# Altium footprint library Connector_Dsub.PcbLib: 104 footprints (part 2 of 7)
Each footprint in its own frame and in the unit in brackets; x right, y up, seen from the top. Pads: shape width x height; smd on the part's side, far side on the other; paste and mask are expansions set on the pad; w line width, h text height; cw(c..) or ccw(c..) is an arc to the next point about the centre after c.
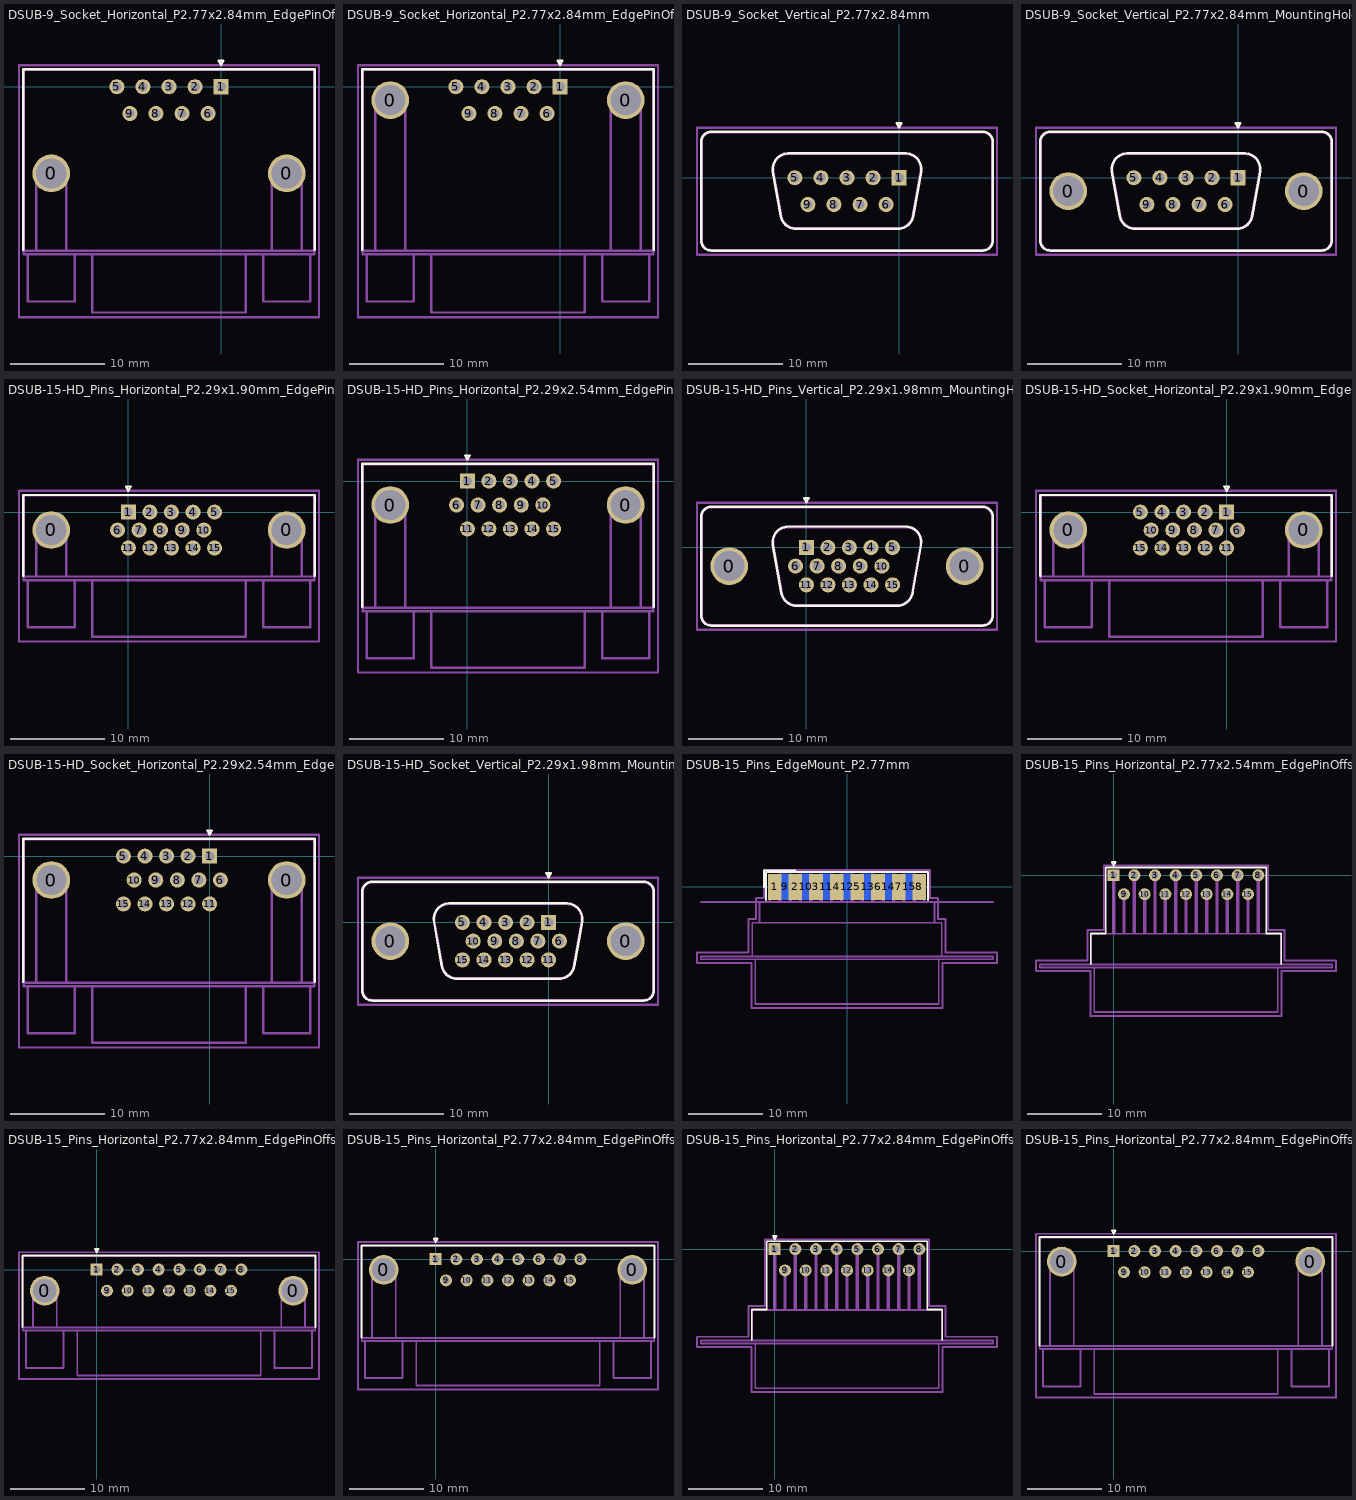
[diagram p1: the footprints below, top view; thin cyan lines are the x and y axes]

## DSUB-9_Socket_Horizontal_P2.77x2.84mm_EdgePinOffset14.56mm_Housed_MountingHolesOffset8.20mm [mm]
pads (11):
  round 4 hole 3.2: 0(-18.04,-9.2) 0(6.96,-9.2)
  rect 1.6x1.6 hole 1: 1(0,0)
  round 1.6 hole 1: 2(-2.77,0) 3(-5.54,0) 4(-8.31,0) 5(-11.08,0) 6(-1.385,-2.84) 7(-4.155,-2.84) 8(-6.925,-2.84) 9(-9.695,-2.84)
F.SilkS:
  lines w0.254: -21.025,-17.34 -21.025,1.86 9.945,1.86 9.945,-17.34 ; -0.25,2.754 0.25,2.754 0,2.321 -0.25,2.754
F.Fab:
  lines w0.254: -19.64,-17.4 -19.64,-9.2 cw(c-18.04,-9.2) -16.44,-9.2 -16.44,-17.4 ; 5.36,-17.4 5.36,-9.2 cw(c6.96,-9.2) 8.56,-9.2 8.56,-17.4 ; -20.965,-17.4 -20.965,1.8 9.885,1.8 9.885,-17.4 ; -20.965,-17.4 -20.965,-17.8 9.885,-17.8 9.885,-17.4 ; -20.965,-17.4 9.885,-17.4 ; -20.965,-17.4 9.885,-17.4 ; -20.54,-22.8 -20.54,-17.8 -15.54,-17.8 -15.54,-22.8 -20.54,-22.8 ; -13.69,-23.97 -13.69,-17.8 2.61,-17.8 2.61,-23.97 -13.69,-23.97 ; 4.46,-22.8 4.46,-17.8 9.46,-17.8 9.46,-22.8 4.46,-22.8
  text "'.Designator'" at -9.587,-21.725 h1
F.CrtYd:
  lines w0.254: -21.47,-24.47 -21.47,2.3 10.39,2.3 10.39,-24.47 -21.47,-24.47

## DSUB-9_Socket_Horizontal_P2.77x2.84mm_EdgePinOffset14.56mm_Housed_MountingHolesOffset15.98mm [mm]
pads (11):
  round 4 hole 3.2: 0(-18.04,-1.42) 0(6.96,-1.42)
  rect 1.6x1.6 hole 1: 1(0,0)
  round 1.6 hole 1: 2(-2.77,0) 3(-5.54,0) 4(-8.31,0) 5(-11.08,0) 6(-1.385,-2.84) 7(-4.155,-2.84) 8(-6.925,-2.84) 9(-9.695,-2.84)
F.SilkS:
  lines w0.254: -21.025,-17.34 -21.025,1.86 9.945,1.86 9.945,-17.34 ; -0.25,2.754 0.25,2.754 0,2.321 -0.25,2.754
F.Fab:
  lines w0.254: -19.64,-17.4 -19.64,-1.42 cw(c-18.04,-1.42) -16.44,-1.42 -16.44,-17.4 ; 5.36,-17.4 5.36,-1.42 cw(c6.96,-1.42) 8.56,-1.42 8.56,-17.4 ; -20.965,-17.4 -20.965,1.8 9.885,1.8 9.885,-17.4 ; -20.965,-17.4 -20.965,-17.8 9.885,-17.8 9.885,-17.4 ; -20.965,-17.4 9.885,-17.4 ; -20.965,-17.4 9.885,-17.4 ; -20.54,-22.8 -20.54,-17.8 -15.54,-17.8 -15.54,-22.8 -20.54,-22.8 ; -13.69,-23.97 -13.69,-17.8 2.61,-17.8 2.61,-23.97 -13.69,-23.97 ; 4.46,-22.8 4.46,-17.8 9.46,-17.8 9.46,-22.8 4.46,-22.8
  text "'.Designator'" at -9.587,-21.725 h1
F.CrtYd:
  lines w0.254: -21.47,-24.47 -21.47,2.3 10.39,2.3 10.39,-24.47 -21.47,-24.47

## DSUB-9_Socket_Vertical_P2.77x2.84mm [mm]
pads (9):
  rect 1.6x1.6 hole 1: 1(0,0)
  round 1.6 hole 1: 2(-2.77,0) 3(-5.54,0) 4(-8.31,0) 5(-11.08,0) 6(-1.385,-2.84) 7(-4.155,-2.84) 8(-6.925,-2.84) 9(-9.695,-2.84)
F.SilkS:
  lines w0.254: -21.025,-6.67 -21.025,3.83 cw(c-19.965,3.83) -19.965,4.89 8.885,4.89 cw(c8.885,3.83) 9.945,3.83 9.945,-6.67 cw(c8.885,-6.67) 8.885,-7.73 -19.965,-7.73 cw(c-19.965,-6.67) -21.025,-6.67 ; -13.406,0.642 -12.578,-4.058 ccw(c-10.943,-3.77) -10.943,-5.43 -0.137,-5.43 ccw(c-0.137,-3.77) 1.498,-4.058 2.326,0.642 ccw(c0.692,0.93) 0.692,2.59 -11.772,2.59 ccw(c-11.772,0.93) -13.406,0.642 ; -0.25,5.784 0.25,5.784 0,5.351 -0.25,5.784
F.Fab:
  lines w0.254: -20.965,-6.67 -20.965,3.83 cw(c-19.965,3.83) -19.965,4.83 8.885,4.83 cw(c8.885,3.83) 9.885,3.83 9.885,-6.67 cw(c8.885,-6.67) 8.885,-7.67 -19.965,-7.67 cw(c-19.965,-6.67) -20.965,-6.67 ; -13.359,0.652 -12.53,-4.048 ccw(c-10.954,-3.77) -10.954,-5.37 -0.126,-5.37 ccw(c-0.126,-3.77) 1.45,-4.048 2.279,0.652 ccw(c0.703,0.93) 0.703,2.53 -11.783,2.53 ccw(c-11.783,0.93) -13.359,0.652
  text "'.Designator'" at -9.587,-2.26 h1
F.CrtYd:
  lines w0.254: -21.47,-8.17 -21.47,5.33 10.39,5.33 10.39,-8.17 -21.47,-8.17

## DSUB-9_Socket_Vertical_P2.77x2.84mm_MountingHoles [mm]
pads (11):
  round 4 hole 3.2: 0(-18.04,-1.42) 0(6.96,-1.42)
  rect 1.6x1.6 hole 1: 1(0,0)
  round 1.6 hole 1: 2(-2.77,0) 3(-5.54,0) 4(-8.31,0) 5(-11.08,0) 6(-1.385,-2.84) 7(-4.155,-2.84) 8(-6.925,-2.84) 9(-9.695,-2.84)
F.SilkS:
  lines w0.254: -21.025,-6.67 -21.025,3.83 cw(c-19.965,3.83) -19.965,4.89 8.885,4.89 cw(c8.885,3.83) 9.945,3.83 9.945,-6.67 cw(c8.885,-6.67) 8.885,-7.73 -19.965,-7.73 cw(c-19.965,-6.67) -21.025,-6.67 ; -13.406,0.642 -12.578,-4.058 ccw(c-10.943,-3.77) -10.943,-5.43 -0.137,-5.43 ccw(c-0.137,-3.77) 1.498,-4.058 2.326,0.642 ccw(c0.692,0.93) 0.692,2.59 -11.772,2.59 ccw(c-11.772,0.93) -13.406,0.642 ; -0.25,5.784 0.25,5.784 0,5.351 -0.25,5.784
F.Fab:
  lines w0.254: -20.965,-6.67 -20.965,3.83 cw(c-19.965,3.83) -19.965,4.83 8.885,4.83 cw(c8.885,3.83) 9.885,3.83 9.885,-6.67 cw(c8.885,-6.67) 8.885,-7.67 -19.965,-7.67 cw(c-19.965,-6.67) -20.965,-6.67 ; -13.359,0.652 -12.53,-4.048 ccw(c-10.954,-3.77) -10.954,-5.37 -0.126,-5.37 ccw(c-0.126,-3.77) 1.45,-4.048 2.279,0.652 ccw(c0.703,0.93) 0.703,2.53 -11.783,2.53 ccw(c-11.783,0.93) -13.359,0.652
  text "'.Designator'" at -9.587,-2.26 h1
F.CrtYd:
  lines w0.254: -21.47,-8.17 -21.47,5.33 10.39,5.33 10.39,-8.17 -21.47,-8.17

## DSUB-15-HD_Pins_Horizontal_P2.29x1.90mm_EdgePinOffset3.03mm_Housed_MountingHolesOffset4.94mm [mm]
pads (17):
  round 4 hole 3.2: 0(-8.185,-1.89) 0(16.815,-1.89)
  rect 1.6x1.6 hole 1: 1(0,0)
  round 1.6 hole 1: 2(2.29,0) 3(4.58,0) 4(6.87,0) 5(9.16,0) 6(-1.145,-1.9) 7(1.145,-1.9) 8(3.435,-1.9) 9(5.725,-1.9) 10(8.015,-1.9) 11(0,-3.8) 12(2.29,-3.8) 13(4.58,-3.8) 14(6.87,-3.8) 15(9.16,-3.8)
F.SilkS:
  lines w0.254: -11.17,-6.77 -11.17,1.83 19.8,1.83 19.8,-6.77 ; -0.25,2.724 0.25,2.724 0,2.291 -0.25,2.724
F.Fab:
  lines w0.254: -9.785,-6.83 -9.785,-1.89 cw(c-8.185,-1.89) -6.585,-1.89 -6.585,-6.83 ; 15.215,-6.83 15.215,-1.89 cw(c16.815,-1.89) 18.415,-1.89 18.415,-6.83 ; -11.11,-6.83 -11.11,1.77 19.74,1.77 19.74,-6.83 ; -11.11,-6.83 -11.11,-7.23 19.74,-7.23 19.74,-6.83 ; -11.11,-6.83 19.74,-6.83 ; -11.11,-6.83 19.74,-6.83 ; -10.685,-12.23 -10.685,-7.23 -5.685,-7.23 -5.685,-12.23 -10.685,-12.23 ; -3.835,-13.23 -3.835,-7.23 12.465,-7.23 12.465,-13.23 -3.835,-13.23 ; 14.315,-12.23 14.315,-7.23 19.315,-7.23 19.315,-12.23 14.315,-12.23
  text "'.Designator'" at 0.268,-11.07 h1
F.CrtYd:
  lines w0.254: -11.61,-13.73 -11.61,2.27 20.25,2.27 20.25,-13.73 -11.61,-13.73

## DSUB-15-HD_Pins_Horizontal_P2.29x2.54mm_EdgePinOffset8.35mm_Housed_MountingHolesOffset10.89mm [mm]
pads (17):
  round 4 hole 3.2: 0(-8.185,-2.54) 0(16.815,-2.54)
  rect 1.6x1.6 hole 1: 1(0,0)
  round 1.6 hole 1: 2(2.29,0) 3(4.58,0) 4(6.87,0) 5(9.16,0) 6(-1.145,-2.54) 7(1.145,-2.54) 8(3.435,-2.54) 9(5.725,-2.54) 10(8.015,-2.54) 11(0,-5.08) 12(2.29,-5.08) 13(4.58,-5.08) 14(6.87,-5.08) 15(9.16,-5.08)
F.SilkS:
  lines w0.254: -11.17,-13.37 -11.17,1.83 19.8,1.83 19.8,-13.37 ; -0.25,2.724 0.25,2.724 0,2.291 -0.25,2.724
F.Fab:
  lines w0.254: -9.785,-13.43 -9.785,-2.54 cw(c-8.185,-2.54) -6.585,-2.54 -6.585,-13.43 ; 15.215,-13.43 15.215,-2.54 cw(c16.815,-2.54) 18.415,-2.54 18.415,-13.43 ; -11.11,-13.43 -11.11,1.77 19.74,1.77 19.74,-13.43 ; -11.11,-13.43 -11.11,-13.83 19.74,-13.83 19.74,-13.43 ; -11.11,-13.43 19.74,-13.43 ; -11.11,-13.43 19.74,-13.43 ; -10.685,-18.83 -10.685,-13.83 -5.685,-13.83 -5.685,-18.83 -10.685,-18.83 ; -3.835,-19.83 -3.835,-13.83 12.465,-13.83 12.465,-19.83 -3.835,-19.83 ; 14.315,-18.83 14.315,-13.83 19.315,-13.83 19.315,-18.83 14.315,-18.83
  text "'.Designator'" at 0.268,-17.67 h1
F.CrtYd:
  lines w0.254: -11.61,-20.33 -11.61,2.27 20.25,2.27 20.25,-20.33 -11.61,-20.33

## DSUB-15-HD_Pins_Vertical_P2.29x1.98mm_MountingHoles [mm]
pads (17):
  round 4 hole 3.2: 0(-8.185,-1.98) 0(16.815,-1.98)
  rect 1.6x1.6 hole 1: 1(0,0)
  round 1.6 hole 1: 2(2.29,0) 3(4.58,0) 4(6.87,0) 5(9.16,0) 6(-1.145,-1.98) 7(1.145,-1.98) 8(3.435,-1.98) 9(5.725,-1.98) 10(8.015,-1.98) 11(0,-3.96) 12(2.29,-3.96) 13(4.58,-3.96) 14(6.87,-3.96) 15(9.16,-3.96)
F.SilkS:
  lines w0.254: -11.17,-7.23 -11.17,3.27 cw(c-10.11,3.27) -10.11,4.33 18.74,4.33 cw(c18.74,3.27) 19.8,3.27 19.8,-7.23 cw(c18.74,-7.23) 18.74,-8.29 -10.11,-8.29 cw(c-10.11,-7.23) -11.17,-7.23 ; -3.551,0.282 -2.652,-4.818 ccw(c-1.017,-4.53) -1.017,-6.19 9.647,-6.19 ccw(c9.647,-4.53) 11.282,-4.818 12.181,0.282 ccw(c10.547,0.57) 10.547,2.23 -1.917,2.23 ccw(c-1.917,0.57) -3.551,0.282 ; -0.25,5.224 0.25,5.224 0,4.791 -0.25,5.224
F.Fab:
  lines w0.254: -11.11,-7.23 -11.11,3.27 cw(c-10.11,3.27) -10.11,4.27 18.74,4.27 cw(c18.74,3.27) 19.74,3.27 19.74,-7.23 cw(c18.74,-7.23) 18.74,-8.23 -10.11,-8.23 cw(c-10.11,-7.23) -11.11,-7.23 ; -3.504,0.292 -2.605,-4.808 ccw(c-1.029,-4.53) -1.029,-6.13 9.659,-6.13 ccw(c9.659,-4.53) 11.235,-4.808 12.134,0.292 ccw(c10.558,0.57) 10.558,2.17 -1.928,2.17 ccw(c-1.928,0.57) -3.504,0.292
  text "'.Designator'" at 0.268,-2.82 h1
F.CrtYd:
  lines w0.254: -11.61,-8.73 -11.61,4.77 20.25,4.77 20.25,-8.73 -11.61,-8.73

## DSUB-15-HD_Socket_Horizontal_P2.29x1.90mm_EdgePinOffset3.03mm_Housed_MountingHolesOffset4.94mm [mm]
pads (17):
  round 4 hole 3.2: 0(-16.815,-1.89) 0(8.185,-1.89)
  rect 1.6x1.6 hole 1: 1(0,0)
  round 1.6 hole 1: 2(-2.29,0) 3(-4.58,0) 4(-6.87,0) 5(-9.16,0) 6(1.145,-1.9) 7(-1.145,-1.9) 8(-3.435,-1.9) 9(-5.725,-1.9) 10(-8.015,-1.9) 11(0,-3.8) 12(-2.29,-3.8) 13(-4.58,-3.8) 14(-6.87,-3.8) 15(-9.16,-3.8)
F.SilkS:
  lines w0.254: -19.8,-6.77 -19.8,1.83 11.17,1.83 11.17,-6.77 ; -0.25,2.724 0.25,2.724 0,2.291 -0.25,2.724
F.Fab:
  lines w0.254: -18.415,-6.83 -18.415,-1.89 cw(c-16.815,-1.89) -15.215,-1.89 -15.215,-6.83 ; 6.585,-6.83 6.585,-1.89 cw(c8.185,-1.89) 9.785,-1.89 9.785,-6.83 ; -19.74,-6.83 -19.74,1.77 11.11,1.77 11.11,-6.83 ; -19.74,-6.83 -19.74,-7.23 11.11,-7.23 11.11,-6.83 ; -19.74,-6.83 11.11,-6.83 ; -19.74,-6.83 11.11,-6.83 ; -19.315,-12.23 -19.315,-7.23 -14.315,-7.23 -14.315,-12.23 -19.315,-12.23 ; -12.465,-13.23 -12.465,-7.23 3.835,-7.23 3.835,-13.23 -12.465,-13.23 ; 5.685,-12.23 5.685,-7.23 10.685,-7.23 10.685,-12.23 5.685,-12.23
  text "'.Designator'" at -8.362,-11.07 h1
F.CrtYd:
  lines w0.254: -20.25,-13.73 -20.25,2.27 11.61,2.27 11.61,-13.73 -20.25,-13.73

## DSUB-15-HD_Socket_Horizontal_P2.29x2.54mm_EdgePinOffset8.35mm_Housed_MountingHolesOffset10.89mm [mm]
pads (17):
  round 4 hole 3.2: 0(-16.815,-2.54) 0(8.185,-2.54)
  rect 1.6x1.6 hole 1: 1(0,0)
  round 1.6 hole 1: 2(-2.29,0) 3(-4.58,0) 4(-6.87,0) 5(-9.16,0) 6(1.145,-2.54) 7(-1.145,-2.54) 8(-3.435,-2.54) 9(-5.725,-2.54) 10(-8.015,-2.54) 11(0,-5.08) 12(-2.29,-5.08) 13(-4.58,-5.08) 14(-6.87,-5.08) 15(-9.16,-5.08)
F.SilkS:
  lines w0.254: -19.8,-13.37 -19.8,1.83 11.17,1.83 11.17,-13.37 ; -0.25,2.724 0.25,2.724 0,2.291 -0.25,2.724
F.Fab:
  lines w0.254: -18.415,-13.43 -18.415,-2.54 cw(c-16.815,-2.54) -15.215,-2.54 -15.215,-13.43 ; 6.585,-13.43 6.585,-2.54 cw(c8.185,-2.54) 9.785,-2.54 9.785,-13.43 ; -19.74,-13.43 -19.74,1.77 11.11,1.77 11.11,-13.43 ; -19.74,-13.43 -19.74,-13.83 11.11,-13.83 11.11,-13.43 ; -19.74,-13.43 11.11,-13.43 ; -19.74,-13.43 11.11,-13.43 ; -19.315,-18.83 -19.315,-13.83 -14.315,-13.83 -14.315,-18.83 -19.315,-18.83 ; -12.465,-19.83 -12.465,-13.83 3.835,-13.83 3.835,-19.83 -12.465,-19.83 ; 5.685,-18.83 5.685,-13.83 10.685,-13.83 10.685,-18.83 5.685,-18.83
  text "'.Designator'" at -8.362,-17.67 h1
F.CrtYd:
  lines w0.254: -20.25,-20.33 -20.25,2.27 11.61,2.27 11.61,-20.33 -20.25,-20.33

## DSUB-15-HD_Socket_Vertical_P2.29x1.98mm_MountingHoles [mm]
pads (17):
  round 4 hole 3.2: 0(-16.815,-1.98) 0(8.185,-1.98)
  rect 1.6x1.6 hole 1: 1(0,0)
  round 1.6 hole 1: 2(-2.29,0) 3(-4.58,0) 4(-6.87,0) 5(-9.16,0) 6(1.145,-1.98) 7(-1.145,-1.98) 8(-3.435,-1.98) 9(-5.725,-1.98) 10(-8.015,-1.98) 11(0,-3.96) 12(-2.29,-3.96) 13(-4.58,-3.96) 14(-6.87,-3.96) 15(-9.16,-3.96)
F.SilkS:
  lines w0.254: -19.8,-7.23 -19.8,3.27 cw(c-18.74,3.27) -18.74,4.33 10.11,4.33 cw(c10.11,3.27) 11.17,3.27 11.17,-7.23 cw(c10.11,-7.23) 10.11,-8.29 -18.74,-8.29 cw(c-18.74,-7.23) -19.8,-7.23 ; -12.181,0.082 -11.353,-4.618 ccw(c-9.718,-4.33) -9.718,-5.99 1.088,-5.99 ccw(c1.088,-4.33) 2.723,-4.618 3.551,0.082 ccw(c1.917,0.37) 1.917,2.03 -10.547,2.03 ccw(c-10.547,0.37) -12.181,0.082 ; -0.25,5.224 0.25,5.224 0,4.791 -0.25,5.224
F.Fab:
  lines w0.254: -19.74,-7.23 -19.74,3.27 cw(c-18.74,3.27) -18.74,4.27 10.11,4.27 cw(c10.11,3.27) 11.11,3.27 11.11,-7.23 cw(c10.11,-7.23) 10.11,-8.23 -18.74,-8.23 cw(c-18.74,-7.23) -19.74,-7.23 ; -12.134,0.092 -11.305,-4.608 ccw(c-9.729,-4.33) -9.729,-5.93 1.099,-5.93 ccw(c1.099,-4.33) 2.675,-4.608 3.504,0.092 ccw(c1.928,0.37) 1.928,1.97 -10.558,1.97 ccw(c-10.558,0.37) -12.134,0.092
  text "'.Designator'" at -8.362,-2.82 h1
F.CrtYd:
  lines w0.254: -20.25,-8.73 -20.25,4.77 11.61,4.77 11.61,-8.73 -20.25,-8.73

## DSUB-15_Pins_EdgeMount_P2.77mm [mm]
pads (15):
  rect 1.847x3.48 smd: 1(-9.695,0) 2(-6.925,0) 3(-4.155,0) 4(-1.385,0) 5(1.385,0) 6(4.155,0) 7(6.925,0) 8(9.695,0)
  rect 1.847x3.48 smd far side: 9(-8.31,0) 10(-5.54,0) 11(-2.77,0) 12(0,0) 13(2.77,0) 14(5.54,0) 15(8.31,0)
F.SilkS:
  lines w0.254: -11.118,0 -11.118,2.24 -6.925,2.24 ; -10.878,-1.74 -10.878,2 10.878,2 10.878,-1.74
F.Fab:
  lines w0.254: -19.6,-9.69 -19.6,-9.29 19.6,-9.29 19.6,-9.69 -19.6,-9.69 ; -12.7,-9.29 -12.7,-4.79 12.7,-4.79 12.7,-9.29 -12.7,-9.29 ; -12.3,-15.69 -12.3,-9.69 12.3,-9.69 12.3,-15.69 -12.3,-15.69 ; -11.7,-4.79 -11.7,-1.99 11.7,-1.99 11.7,-4.79 -11.7,-4.79 ; -10.295,-1.99 -10.295,0.91 -9.095,0.91 -9.095,-1.99 -10.295,-1.99 ; -7.525,-1.99 -7.525,0.91 -6.325,0.91 -6.325,-1.99 -7.525,-1.99 ; -4.755,-1.99 -4.755,0.91 -3.555,0.91 -3.555,-1.99 -4.755,-1.99 ; -1.985,-1.99 -1.985,0.91 -0.785,0.91 -0.785,-1.99 -1.985,-1.99 ; 0.785,-1.99 0.785,0.91 1.985,0.91 1.985,-1.99 0.785,-1.99 ; 3.555,-1.99 3.555,0.91 4.755,0.91 4.755,-1.99 3.555,-1.99 ; 6.325,-1.99 6.325,0.91 7.525,0.91 7.525,-1.99 6.325,-1.99 ; 9.095,-1.99 9.095,0.91 10.295,0.91 10.295,-1.99 9.095,-1.99
  text "'.Designator'" at -4.047,-4.23 h1
B.Fab:
  lines w0.254: -8.91,-1.99 -8.91,0.91 -7.71,0.91 -7.71,-1.99 -8.91,-1.99 ; -6.14,-1.99 -6.14,0.91 -4.94,0.91 -4.94,-1.99 -6.14,-1.99 ; -3.37,-1.99 -3.37,0.91 -2.17,0.91 -2.17,-1.99 -3.37,-1.99 ; -0.6,-1.99 -0.6,0.91 0.6,0.91 0.6,-1.99 -0.6,-1.99 ; 2.17,-1.99 2.17,0.91 3.37,0.91 3.37,-1.99 2.17,-1.99 ; 4.94,-1.99 4.94,0.91 6.14,0.91 6.14,-1.99 4.94,-1.99 ; 7.71,-1.99 7.71,0.91 8.91,0.91 8.91,-1.99 7.71,-1.99
F.CrtYd:
  lines w0.254: -20.1,-10.19 -20.1,-8.79 -13.2,-8.79 -13.2,-4.29 -12.2,-4.29 -12.2,-1.49 -11.12,-1.49 -11.12,2.25 11.12,2.25 11.12,-1.49 12.2,-1.49 12.2,-4.29 13.2,-4.29 13.2,-8.79 20.1,-8.79 20.1,-10.19 12.8,-10.19 12.8,-16.19 -12.8,-16.19 -12.8,-10.19 -20.1,-10.19
Dwgs.User:
  lines w0.254: -19.6,-1.99 19.6,-1.99
  text "PCB edge" at -16.323,-1.732 h0.5

## DSUB-15_Pins_Horizontal_P2.77x2.54mm_EdgePinOffset9.40mm [mm]
pads (15):
  rect 1.6x1.6 hole 1: 1(0,0)
  round 1.6 hole 1: 2(2.77,0) 3(5.54,0) 4(8.31,0) 5(11.08,0) 6(13.85,0) 7(16.62,0) 8(19.39,0) 9(1.385,-2.54) 10(4.155,-2.54) 11(6.925,-2.54) 12(9.695,-2.54) 13(12.465,-2.54) 14(15.235,-2.54) 15(18.005,-2.54)
F.SilkS:
  lines w0.254: -3.065,-11.88 -3.065,-7.78 -1.06,-7.78 -1.06,1.06 20.45,1.06 20.45,-7.78 22.455,-7.78 22.455,-11.88 ; -0.25,1.754 0.25,1.754 0,1.321 -0.25,1.754
F.Fab:
  lines w0.254: -0.1,-7.84 -0.1,0 ; 0,-7.84 0,0 ; 0.1,-7.84 0.1,0 ; 1.285,-7.84 1.285,-2.54 ; 1.385,-7.84 1.385,-2.54 ; 1.485,-7.84 1.485,-2.54 ; 2.67,-7.84 2.67,0 ; 2.77,-7.84 2.77,0 ; 2.87,-7.84 2.87,0 ; 4.055,-7.84 4.055,-2.54 ; 4.155,-7.84 4.155,-2.54 ; 4.255,-7.84 4.255,-2.54 ; 5.44,-7.84 5.44,0 ; 5.54,-7.84 5.54,0 ; 5.64,-7.84 5.64,0 ; 6.825,-7.84 6.825,-2.54 ; 6.925,-7.84 6.925,-2.54 ; 7.025,-7.84 7.025,-2.54 ; 8.21,-7.84 8.21,0 ; 8.31,-7.84 8.31,0 ; 8.41,-7.84 8.41,0 ; 9.595,-7.84 9.595,-2.54 ; 9.695,-7.84 9.695,-2.54 ; 9.795,-7.84 9.795,-2.54 ; 10.98,-7.84 10.98,0 ; 11.08,-7.84 11.08,0 ; 11.18,-7.84 11.18,0 ; 12.365,-7.84 12.365,-2.54 ; 12.465,-7.84 12.465,-2.54 ; 12.565,-7.84 12.565,-2.54 ; 13.75,-7.84 13.75,0 ; 13.85,-7.84 13.85,0 ; 13.95,-7.84 13.95,0 ; 15.135,-7.84 15.135,-2.54 ; 15.235,-7.84 15.235,-2.54 ; 15.335,-7.84 15.335,-2.54 ; 16.52,-7.84 16.52,0 ; 16.62,-7.84 16.62,0 ; 16.72,-7.84 16.72,0 ; 17.905,-7.84 17.905,-2.54 ; 18.005,-7.84 18.005,-2.54 ; 18.105,-7.84 18.105,-2.54 ; 19.29,-7.84 19.29,0 ; 19.39,-7.84 19.39,0 ; 19.49,-7.84 19.49,0 ; -9.905,-12.34 -9.905,-11.94 29.295,-11.94 29.295,-12.34 -9.905,-12.34 ; -3.005,-11.94 -3.005,-7.84 22.395,-7.84 22.395,-11.94 -3.005,-11.94 ; -2.605,-18.34 -2.605,-12.34 21.995,-12.34 21.995,-18.34 -2.605,-18.34
  text "'.Designator'" at 5.648,-16.18 h1
F.CrtYd:
  lines w0.254: -10.41,-12.84 -10.41,-11.44 -3.51,-11.44 -3.51,-7.34 -1.3,-7.34 -1.3,1.31 20.69,1.31 20.69,-7.34 22.9,-7.34 22.9,-11.44 29.8,-11.44 29.8,-12.84 22.5,-12.84 22.5,-18.84 -3.11,-18.84 -3.11,-12.84 -10.41,-12.84

## DSUB-15_Pins_Horizontal_P2.77x2.84mm_EdgePinOffset4.94mm_Housed_MountingHolesOffset4.94mm [mm]
pads (17):
  round 4 hole 3.2: 0(-6.955,-2.84) 0(26.345,-2.84)
  rect 1.6x1.6 hole 1: 1(0,0)
  round 1.6 hole 1: 2(2.77,0) 3(5.54,0) 4(8.31,0) 5(11.08,0) 6(13.85,0) 7(16.62,0) 8(19.39,0) 9(1.385,-2.84) 10(4.155,-2.84) 11(6.925,-2.84) 12(9.695,-2.84) 13(12.465,-2.84) 14(15.235,-2.84) 15(18.005,-2.84)
F.SilkS:
  lines w0.254: -9.965,-7.72 -9.965,1.86 29.355,1.86 29.355,-7.72 ; -0.25,2.754 0.25,2.754 0,2.321 -0.25,2.754
F.Fab:
  lines w0.254: -8.555,-7.78 -8.555,-2.84 cw(c-6.955,-2.84) -5.355,-2.84 -5.355,-7.78 ; 24.745,-7.78 24.745,-2.84 cw(c26.345,-2.84) 27.945,-2.84 27.945,-7.78 ; -9.905,-7.78 -9.905,1.8 29.295,1.8 29.295,-7.78 ; -9.905,-7.78 -9.905,-8.18 29.295,-8.18 29.295,-7.78 ; -9.905,-7.78 29.295,-7.78 ; -9.905,-7.78 29.295,-7.78 ; -9.455,-13.18 -9.455,-8.18 -4.455,-8.18 -4.455,-13.18 -9.455,-13.18 ; -2.605,-14.18 -2.605,-8.18 21.995,-8.18 21.995,-14.18 -2.605,-14.18 ; 23.845,-13.18 23.845,-8.18 28.845,-8.18 28.845,-13.18 23.845,-13.18
  text "'.Designator'" at 5.648,-12.02 h1
F.CrtYd:
  lines w0.254: -10.41,-14.68 -10.41,2.31 29.8,2.31 29.8,-14.68 -10.41,-14.68

## DSUB-15_Pins_Horizontal_P2.77x2.84mm_EdgePinOffset7.70mm_Housed_MountingHolesOffset9.12mm [mm]
pads (17):
  round 4 hole 3.2: 0(-6.955,-1.42) 0(26.345,-1.42)
  rect 1.6x1.6 hole 1: 1(0,0)
  round 1.6 hole 1: 2(2.77,0) 3(5.54,0) 4(8.31,0) 5(11.08,0) 6(13.85,0) 7(16.62,0) 8(19.39,0) 9(1.385,-2.84) 10(4.155,-2.84) 11(6.925,-2.84) 12(9.695,-2.84) 13(12.465,-2.84) 14(15.235,-2.84) 15(18.005,-2.84)
F.SilkS:
  lines w0.254: -9.965,-10.48 -9.965,1.86 29.355,1.86 29.355,-10.48 ; -0.25,2.754 0.25,2.754 0,2.321 -0.25,2.754
F.Fab:
  lines w0.254: -8.555,-10.54 -8.555,-1.42 cw(c-6.955,-1.42) -5.355,-1.42 -5.355,-10.54 ; 24.745,-10.54 24.745,-1.42 cw(c26.345,-1.42) 27.945,-1.42 27.945,-10.54 ; -9.905,-10.54 -9.905,1.8 29.295,1.8 29.295,-10.54 ; -9.905,-10.54 -9.905,-10.94 29.295,-10.94 29.295,-10.54 ; -9.905,-10.54 29.295,-10.54 ; -9.905,-10.54 29.295,-10.54 ; -9.455,-15.94 -9.455,-10.94 -4.455,-10.94 -4.455,-15.94 -9.455,-15.94 ; -2.605,-16.94 -2.605,-10.94 21.995,-10.94 21.995,-16.94 -2.605,-16.94 ; 23.845,-15.94 23.845,-10.94 28.845,-10.94 28.845,-15.94 23.845,-15.94
  text "'.Designator'" at 5.648,-14.78 h1
F.CrtYd:
  lines w0.254: -10.41,-17.44 -10.41,2.31 29.8,2.31 29.8,-17.44 -10.41,-17.44

## DSUB-15_Pins_Horizontal_P2.77x2.84mm_EdgePinOffset9.40mm [mm]
pads (15):
  rect 1.6x1.6 hole 1: 1(0,0)
  round 1.6 hole 1: 2(2.77,0) 3(5.54,0) 4(8.31,0) 5(11.08,0) 6(13.85,0) 7(16.62,0) 8(19.39,0) 9(1.385,-2.84) 10(4.155,-2.84) 11(6.925,-2.84) 12(9.695,-2.84) 13(12.465,-2.84) 14(15.235,-2.84) 15(18.005,-2.84)
F.SilkS:
  lines w0.254: -3.065,-12.18 -3.065,-8.08 -1.06,-8.08 -1.06,1.06 20.45,1.06 20.45,-8.08 22.455,-8.08 22.455,-12.18 ; -0.25,1.754 0.25,1.754 0,1.321 -0.25,1.754
F.Fab:
  lines w0.254: -0.1,-8.14 -0.1,0 ; 0,-8.14 0,0 ; 0.1,-8.14 0.1,0 ; 1.285,-8.14 1.285,-2.84 ; 1.385,-8.14 1.385,-2.84 ; 1.485,-8.14 1.485,-2.84 ; 2.67,-8.14 2.67,0 ; 2.77,-8.14 2.77,0 ; 2.87,-8.14 2.87,0 ; 4.055,-8.14 4.055,-2.84 ; 4.155,-8.14 4.155,-2.84 ; 4.255,-8.14 4.255,-2.84 ; 5.44,-8.14 5.44,0 ; 5.54,-8.14 5.54,0 ; 5.64,-8.14 5.64,0 ; 6.825,-8.14 6.825,-2.84 ; 6.925,-8.14 6.925,-2.84 ; 7.025,-8.14 7.025,-2.84 ; 8.21,-8.14 8.21,0 ; 8.31,-8.14 8.31,0 ; 8.41,-8.14 8.41,0 ; 9.595,-8.14 9.595,-2.84 ; 9.695,-8.14 9.695,-2.84 ; 9.795,-8.14 9.795,-2.84 ; 10.98,-8.14 10.98,0 ; 11.08,-8.14 11.08,0 ; 11.18,-8.14 11.18,0 ; 12.365,-8.14 12.365,-2.84 ; 12.465,-8.14 12.465,-2.84 ; 12.565,-8.14 12.565,-2.84 ; 13.75,-8.14 13.75,0 ; 13.85,-8.14 13.85,0 ; 13.95,-8.14 13.95,0 ; 15.135,-8.14 15.135,-2.84 ; 15.235,-8.14 15.235,-2.84 ; 15.335,-8.14 15.335,-2.84 ; 16.52,-8.14 16.52,0 ; 16.62,-8.14 16.62,0 ; 16.72,-8.14 16.72,0 ; 17.905,-8.14 17.905,-2.84 ; 18.005,-8.14 18.005,-2.84 ; 18.105,-8.14 18.105,-2.84 ; 19.29,-8.14 19.29,0 ; 19.39,-8.14 19.39,0 ; 19.49,-8.14 19.49,0 ; -9.905,-12.64 -9.905,-12.24 29.295,-12.24 29.295,-12.64 -9.905,-12.64 ; -3.005,-12.24 -3.005,-8.14 22.395,-8.14 22.395,-12.24 -3.005,-12.24 ; -2.605,-18.64 -2.605,-12.64 21.995,-12.64 21.995,-18.64 -2.605,-18.64
  text "'.Designator'" at 5.648,-16.48 h1
F.CrtYd:
  lines w0.254: -10.41,-13.14 -10.41,-11.74 -3.51,-11.74 -3.51,-7.64 -1.3,-7.64 -1.3,1.31 20.69,1.31 20.69,-7.64 22.9,-7.64 22.9,-11.74 29.8,-11.74 29.8,-13.14 22.5,-13.14 22.5,-19.14 -3.11,-19.14 -3.11,-13.14 -10.41,-13.14

## DSUB-15_Pins_Horizontal_P2.77x2.84mm_EdgePinOffset9.90mm_Housed_MountingHolesOffset11.32mm [mm]
pads (17):
  round 4 hole 3.2: 0(-6.955,-1.42) 0(26.345,-1.42)
  rect 1.6x1.6 hole 1: 1(0,0)
  round 1.6 hole 1: 2(2.77,0) 3(5.54,0) 4(8.31,0) 5(11.08,0) 6(13.85,0) 7(16.62,0) 8(19.39,0) 9(1.385,-2.84) 10(4.155,-2.84) 11(6.925,-2.84) 12(9.695,-2.84) 13(12.465,-2.84) 14(15.235,-2.84) 15(18.005,-2.84)
F.SilkS:
  lines w0.254: -9.965,-12.68 -9.965,1.86 29.355,1.86 29.355,-12.68 ; -0.25,2.754 0.25,2.754 0,2.321 -0.25,2.754
F.Fab:
  lines w0.254: -8.555,-12.74 -8.555,-1.42 cw(c-6.955,-1.42) -5.355,-1.42 -5.355,-12.74 ; 24.745,-12.74 24.745,-1.42 cw(c26.345,-1.42) 27.945,-1.42 27.945,-12.74 ; -9.905,-12.74 -9.905,1.8 29.295,1.8 29.295,-12.74 ; -9.905,-12.74 -9.905,-13.14 29.295,-13.14 29.295,-12.74 ; -9.905,-12.74 29.295,-12.74 ; -9.905,-12.74 29.295,-12.74 ; -9.455,-18.14 -9.455,-13.14 -4.455,-13.14 -4.455,-18.14 -9.455,-18.14 ; -2.605,-19.14 -2.605,-13.14 21.995,-13.14 21.995,-19.14 -2.605,-19.14 ; 23.845,-18.14 23.845,-13.14 28.845,-13.14 28.845,-18.14 23.845,-18.14
  text "'.Designator'" at 5.648,-16.98 h1
F.CrtYd:
  lines w0.254: -10.41,-19.64 -10.41,2.31 29.8,2.31 29.8,-19.64 -10.41,-19.64